# EAGLE library part ICSP (library podkommander)
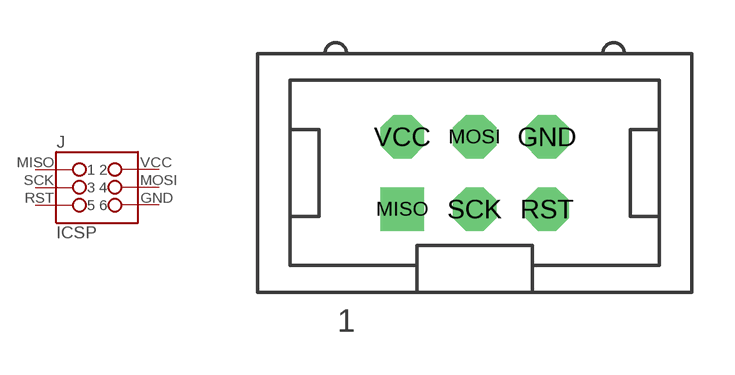
[diagram p6: symbol with the pads of HEADER-FOUR-WALL-2X03-ICSP; footprint HEADER-FOUR-WALL-2X03-ICSP]

Designator prefix J

## ICSP  [HEADER-FOUR-WALL-2X03-ICSP]
GND  6
MISO  1
MOSI  4
RST  5
SCK  3
VCC  2

## Footprint HEADER-FOUR-WALL-2X03-ICSP (pad centres in mm)
drill 1.016 octagon: GND 2.54,1.27; MOSI 0,1.27; RST 2.54,-1.27; SCK 0,-1.27; VCC -2.54,1.27
drill 1.016 square: MISO -2.54,-1.27